# EAGLE library part IRF7389 (library RobotElementy)
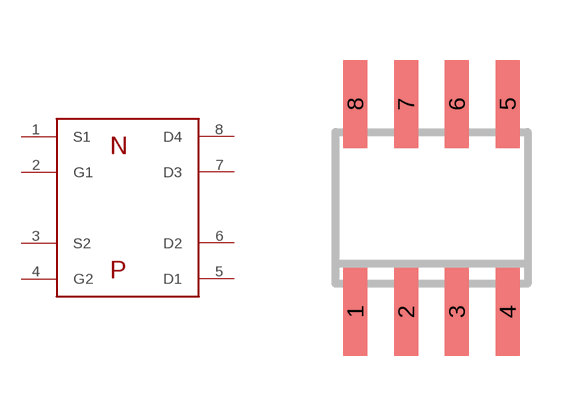
[diagram p2: symbol with the pads of SO8; footprint SO8]

Designator prefix -

## IRF7389  [SO8]
1  S1
2  G1
3  S2
4  G2
5  D1
6  D2
7  D3
8  D4

## Footprint SO8 (pad centres in mm)
SMALL OUTLINE INTEGRATED CIRCUIT
smd 0.6 x 2.2: 1 -1.905,-2.6; 2 -0.635,-2.6; 3 0.635,-2.6; 4 1.905,-2.6; 5 1.905,2.6; 6 0.635,2.6; 7 -0.635,2.6; 8 -1.905,2.6